# EAGLE library part BNO055 (library SpatiumB)
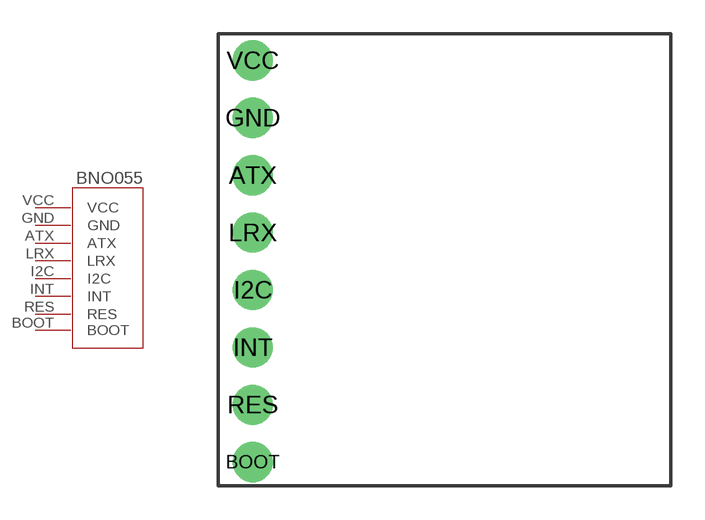
[diagram p2: symbol with the pads of BNO055; footprint BNO055]

Designator prefix BNO055

## BNO055  [BNO055]
ATX  ATX
BOOT  BOOT
GND  GND
I2C  I2C
INT  INT
LRX  LRX
RES  RES
VCC  VCC

## Footprint BNO055 (pad centres in mm)
drill 0.9 pad 1.778: ATX -8.48,3.74; BOOT -8.48,-8.96; GND -8.48,6.28; I2C -8.48,-1.34; INT -8.48,-3.88; LRX -8.48,1.2; RES -8.48,-6.42; VCC -8.48,8.82